# Altium schematic symbol library SCH - POWER - SWITCHMODE - TI TPS62085RLT.SchLib: 1 symbol
Pins are listed as number, name and electrical type; pins without a type are passive.

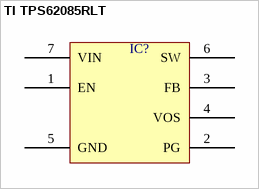
[diagram p0: symbol TI TPS62085RLT]

## TI TPS62085RLT
designator IC?  (value not drawn)
pins: 1 EN, 2 PG, 3 FB, 4 VOS, 5 GND, 6 SW, 7 VIN